# Altium integrated library SMA.IntLib: 2 symbols
Pins are listed as number, name and electrical type; pins without a type are passive.

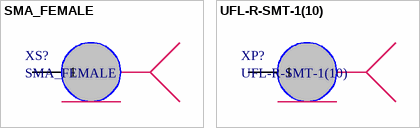
[diagram p0: symbols SMA_FEMALE to UFL-R-SMT-1(10)]

## SMA_FEMALE
designator XS?
footprint SMA_FEMALE
pins: 1, 2 GND (power)

## UFL-R-SMT-1(10)
designator XP?
footprint UFL-R-SMT-1(10)
pins: 1, 2 AGND (power) hidden to AGND, 3 AGND hidden to AGND